# Altium footprint library connector_rename_bug.PcbLib: 30 footprints (part 2 of 2)
Each footprint in its own frame and in the unit in brackets; x right, y up, seen from the top. Pads: shape width x height; smd on the part's side, far side on the other; paste and mask are expansions set on the pad; w line width, h text height; cw(c..) or ccw(c..) is an arc to the next point about the centre after c.
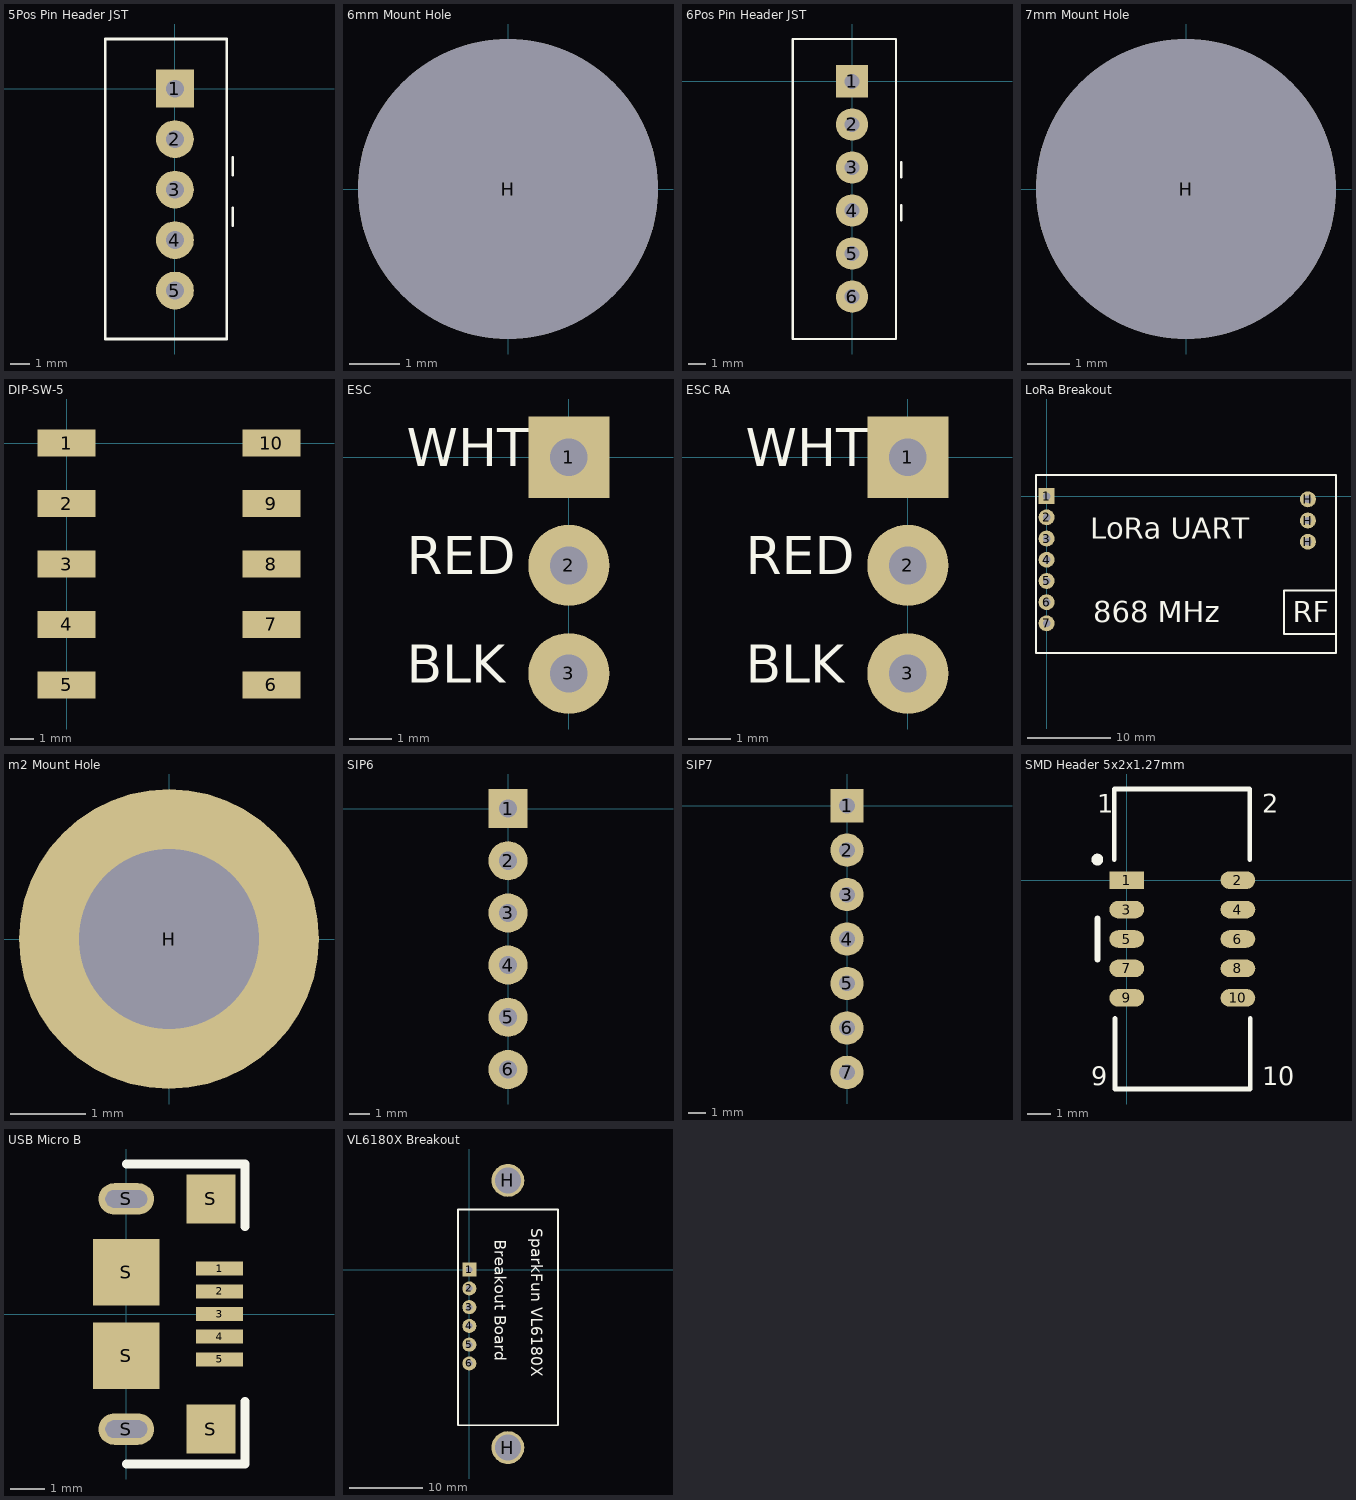
[diagram p1: the footprints below, top view; thin cyan lines are the x and y axes]

## 5Pos Pin Header JST [mil] "Male, 0.1\" Pitch"
height 442
pads (5):
  rect 75x75 hole 35: 1(0,0)
  round 75 hole 35: 2(0,-100) 3(0,-200) 4(0.01,-300) 5(0.01,-400)
Top Overlay:
  lines w5: 114.17,-271.65 114.17,-236.22 ; 114.17,-171.65 114.17,-136.22 ; -137.8,-496.06 102.36,-496.06 102.36,98.43 -137.8,98.43 -137.8,-496.06
3D body "JST - XH - Thru - 5Pin - 2.54mm.stp": height 284, standoff -118, extent -132.01,-491.99 97.99,92.01

## 6mm Mount Hole [mm] "6mm"
height 4
pads (1):
  round 6 hole 6 unplated: H(0,0)

## 6Pos Pin Header JST [mil] "Male, 0.1\" Pitch"
height 442
pads (6):
  rect 75x75 hole 35: 1(0,0)
  round 75 hole 35: 2(0,-100) 3(0,-200) 4(0.01,-300) 5(0.01,-400) 6(0.02,-500)
Top Overlay:
  lines w5: 114.17,-322.83 114.17,-287.4 ; 114.17,-222.83 114.17,-187.4 ; -137.8,-598.43 -137.8,98.43 102.36,98.43 102.36,-598.43 -137.8,-598.43
3D body "JST - XH - Thru - 6Pin - 2.54mm.stp": height 284, standoff -118, extent -132,-592 98,92

## 7mm Mount Hole [mm] "7mm"
height 4
pads (1):
  round 7 hole 7 unplated: H(0,0)

## DIP-SW-5 [mm] "5 0.1\" Pitch SMT Dip Switches"
height 4.06
pads (10):
  rect 2.44x1.13 smd: 1(0,0) 2(0,-2.54) 3(0,-5.08) 4(0,-7.62) 5(0,-10.16) 6(8.6,-10.16) 7(8.6,-7.62) 8(8.6,-5.08) 9(8.6,-2.54) 10(8.6,0)
3D body "219-5poles.stp": height 4.28, standoff -0.02, extent -0.637,-12.165 9.273,2.005

## ESC [mil] "Male, 0.1\" Pitch"
height 442
pads (3):
  rect 75x75 hole 35: 1(0,0)
  round 75 hole 35: 2(0,-100) 3(0,-200)
Top Overlay:
  text "BLK" at -150,-220 h60
  text "RED" at -150,-120 h60
  text "WHT" at -150,-20 h60
3D body "Pin Header 1x3 TH Pitch 2.54mm.stp": height 373.85, standoff -125.98, extent -50,-249.99 50,50.01

## ESC RA [mil] "Male, 0.1\" Pitch"
height 282.01
pads (3):
  rect 75x75 hole 35: 1(0,0)
  round 75 hole 35: 2(0,-100) 3(0,-200)
Top Overlay:
  text "WHT" at -150,-20 h60
  text "RED" at -150,-120 h60
  text "BLK" at -150,-220 h60
3D body "User Library-Header90-1.STEP": height 100, standoff -118.11, extent -12.79,-250 395.08,-150
3D body "User Library-Header90-1.STEP": height 100, standoff -118.11, extent -12.79,-50 395.08,50
3D body "User Library-Header90-1.STEP": height 100, standoff -118.11, extent -12.79,-150 395.08,-50

## LoRa Breakout [mil] "0.1\" Pitch"
height 473
pads (10):
  rect 75x75 hole 35: 1(0,0)
  round 75 hole 35: 2(0,-100) 3(0,-200) 4(0,-300) 5(0,-400) 6(0,-500) 7(0,-600) H(1232.5,-215) H(1232.5,-115) H(1232.5,-15)
Top Overlay:
  lines w10: 1365,-650 1120,-650 1120,-445 1365,-445 ; -50,-740 -50,100 1365,100 1365,-740 -50,-740
  text "868 MHz" at 220,-595 h100
  text "LoRa UART" at 205,-200 h100
  text "RF" at 1160,-595 h100
3D body "female_pin.sldprt": height 311.28, standoff -82.42, extent -7.87,-39.08 7.88,39.08
3D body "female_header.SLDPRT": height 334.65, standoff 0, extent -50,-52.76 50,47.24
3D body "female_header.SLDPRT": height 334.65, standoff 0, extent -50,-152.76 50,-52.76
3D body "female_pin.sldprt": height 311.28, standoff -82.42, extent -7.87,-139.08 7.88,-60.92
3D body "female_header.SLDPRT": height 334.65, standoff 0, extent -50,-252.76 50,-152.76
3D body "female_pin.sldprt": height 311.28, standoff -82.42, extent -7.87,-239.08 7.88,-160.92
3D body "female_header.SLDPRT": height 334.65, standoff 0, extent -50,-352.76 50,-252.76
3D body "female_pin.sldprt": height 311.28, standoff -82.42, extent -7.87,-339.08 7.88,-260.92
3D body "female_header.SLDPRT": height 334.65, standoff 0, extent -50,-452.76 50,-352.76
3D body "female_pin.sldprt": height 311.28, standoff -82.42, extent -7.87,-439.08 7.88,-360.92
3D body "female_header.SLDPRT": height 334.65, standoff 0, extent -50,-552.76 50,-452.76
3D body "female_pin.sldprt": height 311.28, standoff -82.42, extent -7.87,-539.08 7.88,-460.92
3D body "female_header.SLDPRT": height 334.65, standoff 0, extent -50,-652.76 50,-552.76
3D body "female_pin.sldprt": height 311.28, standoff -82.42, extent -7.87,-639.08 7.88,-560.92
3D body "female_header.SLDPRT": height 334.65, standoff 0, extent 1182.5,-267.76 1282.5,-167.76
3D body "female_pin.sldprt": height 311.28, standoff -82.42, extent 1224.63,-254.08 1240.38,-175.92
3D body "female_header.SLDPRT": height 334.65, standoff 0, extent 1182.5,-167.76 1282.5,-67.76
3D body "female_pin.sldprt": height 311.28, standoff -82.42, extent 1224.63,-154.08 1240.38,-75.92
3D body "female_header.SLDPRT": height 334.65, standoff 0, extent 1182.5,-67.76 1282.5,32.24
3D body "female_pin.sldprt": height 311.28, standoff -82.42, extent 1224.63,-54.08 1240.38,24.08

## m2 Mount Hole [mm] "4mm"
height 4
pads (1):
  round 4 hole 2.4: H(0,0)
3D body "M2 x 0.4mm Thread 4mm LONG SOCKET HEAD CAP SCREW.STEP": height 2, standoff -4, extent -1.9,-1.9 1.9,1.9

## SIP6 [mil] "0.1\" Pitch"
height 442
pads (6):
  rect 75x75 hole 35: 1(0,0)
  round 75 hole 35: 2(0,-100) 3(0,-200) 4(0,-300) 5(0,-400) 6(0,-500)
3D body "Pin Header 1x6 TH Pitch 2.54mm.stp": height 373.85, standoff -125.98, extent -50,-550 50,50

## SIP7 [mil] "0.1\" Pitch"
height 442
pads (7):
  rect 75x75 hole 35: 1(0,0)
  round 75 hole 35: 2(0,-100) 3(0,-200) 4(0,-300) 5(0,-400) 6(0,-500) 7(0,-600)
3D body "Pin Header 1x7 TH Pitch 2.54mm.stp": height 373.85, standoff -125.98, extent -50.01,-649.99 49.99,50.01

## SMD Header 5x2x1.27mm [mm]
pads (10):
  rect 1.5x0.76 smd: 1(0,0)
  oval 1.5x0.76 smd: 2(4.8,0) 3(0,-1.27) 4(4.8,-1.27) 5(0,-2.54) 6(4.8,-2.54) 7(0,-3.81) 8(4.8,-3.81) 9(0,-5.08) 10(4.8,-5.08)
Top Overlay:
  circle w0.254: c-1.27,0.889 r0.127
  lines w0.2: -0.534,0.889 -0.534,3.937 5.308,3.937 5.308,0.889 ; -0.508,-5.969 -0.508,-9.017 5.334,-9.017 5.334,-5.969
  lines w0.254: -1.27,-3.429 -1.27,-1.651
  text "1" at -1.27,2.921 h0.8
  text "2" at 5.842,2.921 h0.8
  text "9" at -1.524,-8.865 h0.8
  text "10" at 5.842,-8.865 h0.8
3D body "male-shrouded-5x2x1.27mm.step": height 5.6, standoff 0, extent -0.35,-8.865 5.15,3.785

## USB Micro B [mm]
pads (11):
  rect 1.35x0.4 smd mask+0.05: 1(2.675,1.3) 2(2.675,0.65) 3(2.675,0) 4(2.675,-0.65) 5(2.675,-1.3)
  oval 1.6x0.9 hole 0.5 slot 1.2 at 0 deg: S(0,-3.3) S(0,3.3)
  rect 1.9x1.9 smd: S(0,-1.2) S(0,1.2)
  rect 1.4x1.4 smd: S(2.425,-3.3) S(2.425,3.3)
Top Overlay:
  lines w0.254: 0,-4.3 3.4,-4.3 3.4,-2.5 ; 0,4.3 3.4,4.3 3.4,2.5
3D body "10118193-0001lfc.stp": height 2.88, standoff -0.72, extent -2.761,-3.928 2.9,3.928

## VL6180X Breakout [mil] "I2C Interface, 0.1\" Pitch"
height 442
pads (8):
  rect 75x75 hole 35: 1(0,0)
  round 75 hole 35: 2(0,-100) 3(0,-200) 4(0,-300) 5(0,-400) 6(0,-500)
  round 175 hole 140 unplated: H(206,-949) H(206,476)
Top Overlay:
  lines w10: -60,-830 473,-830 473,320 -60,320 -60,-830
  text "Breakout Board" at 135,160 h60
  text "SparkFun VL6180X" at 330,220 h60